# Altium footprint library Relays.PcbLib: 13 footprints
Each footprint in its own frame and in the unit in brackets; x right, y up, seen from the top. Pads: shape width x height; smd on the part's side, far side on the other; paste and mask are expansions set on the pad; w line width, h text height; cw(c..) or ccw(c..) is an arc to the next point about the centre after c.
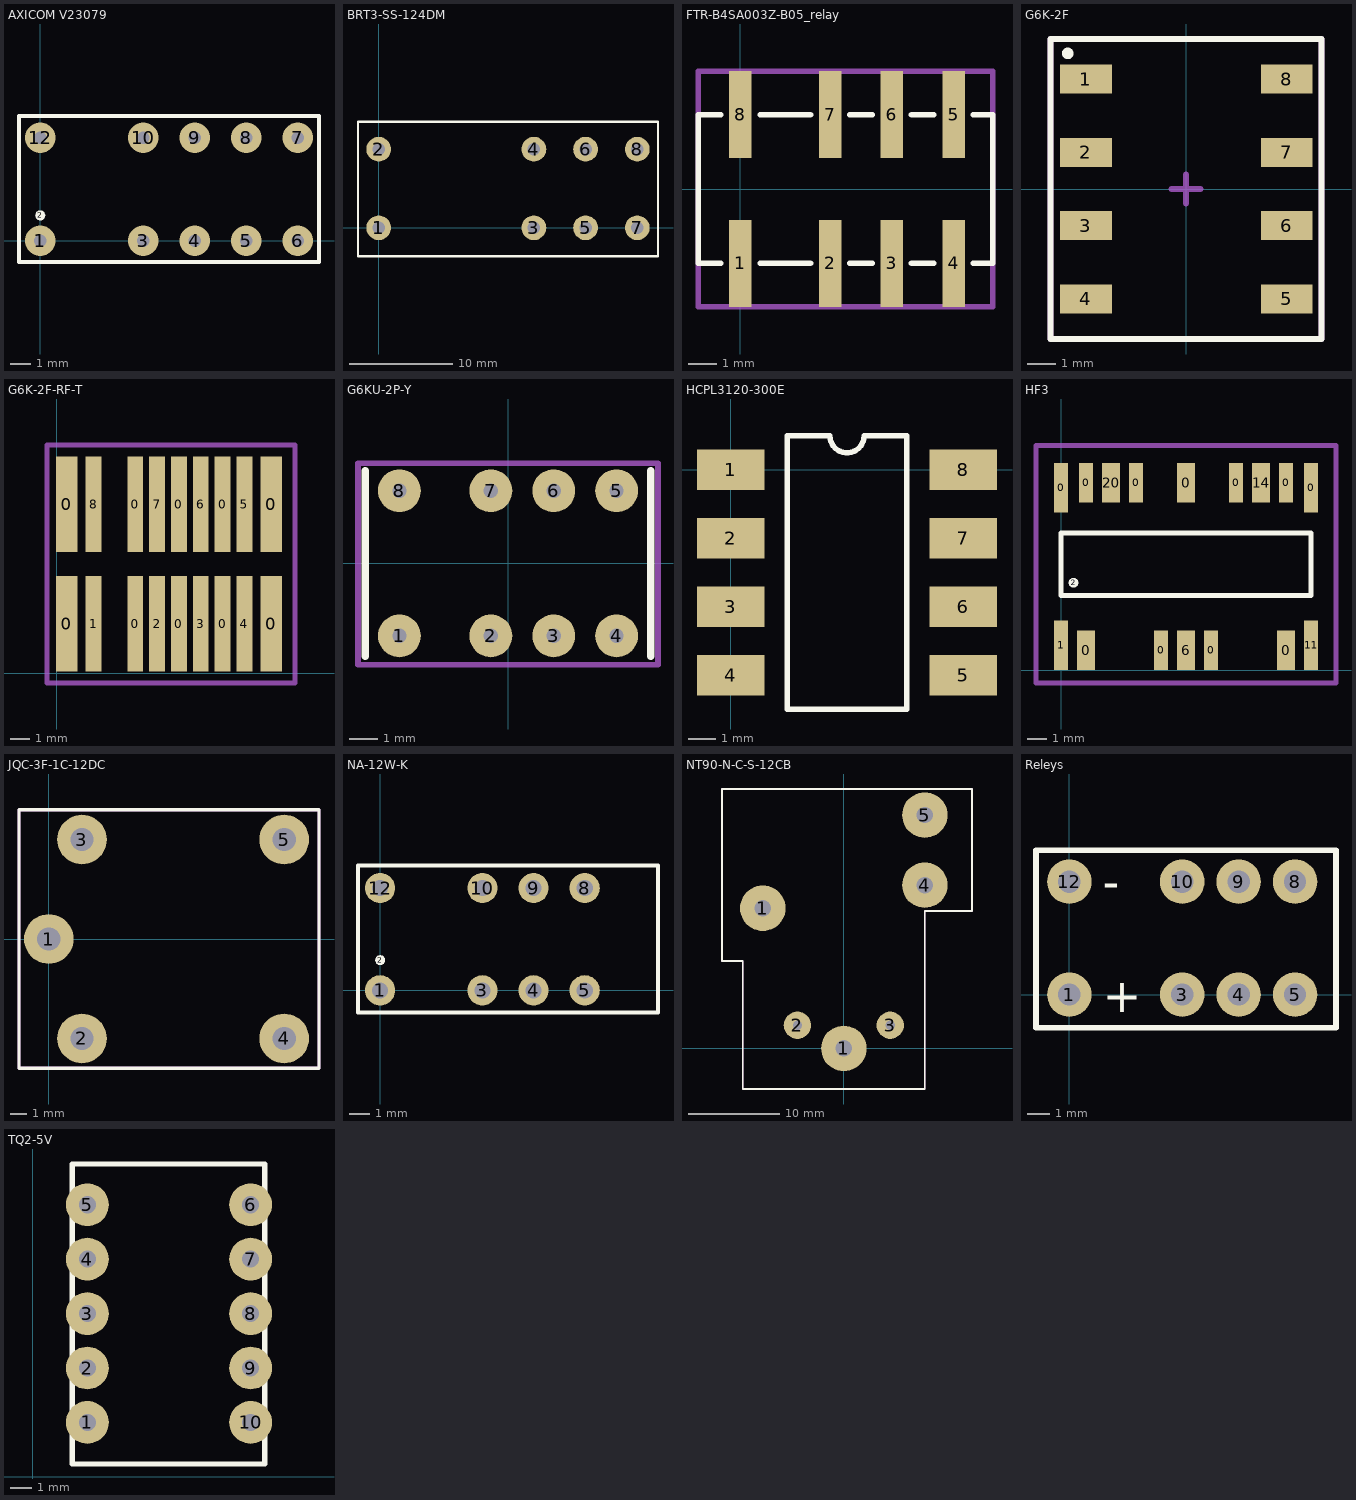
[diagram p0: the footprints below, top view; thin cyan lines are the x and y axes]

## AXICOM V23079 [mm]
pads (11):
  round 1.5 hole 0.6: 1(0,0) 3(5.08,0) 4(7.62,0) 5(10.16,0) 6(12.7,0) 7(12.7,5.08) 8(10.16,5.08) 9(7.62,5.08) 10(5.08,5.08) 12(0,5.08)
  round 0.5 on Top Overlay: 2(0,1.25)
Top Overlay:
  lines w0.2: -1.05,-1.05 13.75,-1.05 13.75,6.15 -1.05,6.15 -1.05,-1.05
3D body "User Library-NA12W-K.STEP": height 9.7, standoff -3, extent -1.1,-1.15 13.8,6.25

## BRT3-SS-124DM [mm]
pads (8):
  round 2.4 hole 1.2: 1(0,0) 2(0,7.6) 3(15,0) 4(15,7.6) 5(20,0) 6(20,7.6) 7(25,0) 8(25,7.6)
Top Overlay:
  lines w0.2: -2,-2.75 27,-2.75 27,10.25 -2,10.25 -2,-2.75
3D body "User Library-Relay HONGFA JQX-14F-1C.STEP": height 21, standoff -3.6, extent -2.5,-3 27.5,10.5

## FTR-B4SA003Z-B05_relay [mm]
pads (8):
  rect 0.8x3.1 smd: 1(0,-2.65) 2(3.2,-2.65) 3(5.4,-2.65) 4(7.6,-2.65) 5(7.6,2.65) 6(5.4,2.65) 7(3.2,2.65) 8(0,2.65)
Top Overlay:
  lines w0.2: -0.7,-2.65 -1.5,-2.65 -1.5,2.65 -0.7,2.65 ; 0.7,-2.65 2.5,-2.65 ; 0.7,2.65 2.5,2.65 ; 3.9,-2.65 4.7,-2.65 ; 3.9,2.65 4.7,2.65 ; 6.1,-2.65 6.9,-2.65 ; 6.1,2.65 6.9,2.65 ; 8.3,-2.65 9,-2.65 9,2.65 8.3,2.65
TopAssy:
  lines w0.2: -1.5,-4.2 9,-4.2 9,4.2 -1.5,4.2 -1.5,-4.2
3D body "g6k-2f-rf_3dc.stp": height 5.4, standoff 0, extent -2.6,-3.9 10.2,3.9

## G6K-2F [mm] "SOJ, 8-Leads, Body 10,0x6,5mm (max), Pitch 2,54mm, IPC Low Density"
height 5.2
pads (8):
  rect 1.8x1 smd: 1(-3.467,3.81) 2(-3.467,1.27) 3(-3.467,-1.27) 4(-3.467,-3.81) 5(3.492,-3.81) 6(3.492,-1.27) 7(3.492,1.27) 8(3.492,3.81)
Top Overlay:
  circle w0.2: c-4.1,4.7 r0.1
  lines w0.2: -4.7,-5.2 -4.7,5.2 4.7,5.2 4.7,-5.2 -4.7,-5.2
TopAssy:
  lines w0.2: -0.5,0 0.5,0 ; 0,-0.5 0,0.5 ; -4.7,-5.2 -4.7,5.2 4.7,5.2 4.7,-5.2 -4.7,-5.2
3D body "g6k-2f_3dc.stp": height 5.2, standoff 0, extent -3.9,-5 3.9,5

## G6K-2F-RF-T [mm]
pads (18):
  rect 1.1x4.8 smd: 0(0.5,2.5) 0(0.5,8.5) 0(10.8,2.5) 0(10.8,8.5)
  rect 0.8x4.8 smd: 0(3.95,2.5) 0(3.95,8.5) 0(6.15,2.5) 0(6.15,8.5) 0(8.35,2.5) 0(8.35,8.5) 1(1.85,2.5) 2(5.05,2.5) 3(7.25,2.5) 4(9.45,2.5) 5(9.45,8.5) 6(7.25,8.5) 7(5.05,8.5) 8(1.85,8.5)
Mechanical 15:
  lines w0.254: -0.5,-0.5 -0.5,11.5 12,11.5 12,-0.5 -0.5,-0.5

## G6KU-2P-Y [mm]
pads (8):
  round 1.5 hole 0.5: 1(-3.8,-2.54) 2(-0.6,-2.54) 3(1.6,-2.54) 4(3.8,-2.54) 5(3.8,2.54) 6(1.6,2.54) 7(-0.6,2.54) 8(-3.8,2.54)
Top Overlay:
  lines w0.254: -5,-3.25 -5,3.25 ; 5,-3.25 5,3.25
Mechanical 15:
  lines w0.2: -5.25,-3.55 5.25,-3.55 5.25,3.5 -5.25,3.5 -5.25,-3.55

## HCPL3120-300E [mm]
pads (8):
  rect 2.5x1.5 smd: 1(0,0) 2(0,-2.54) 3(0,-5.08) 4(0,-7.62) 5(8.636,-7.62) 6(8.636,-5.08) 7(8.636,-2.54) 8(8.636,0)
Top Overlay:
  lines w0.2: 2.093,-8.89 2.093,1.27 3.683,1.27 ccw(c4.318,1.27) 4.953,1.27 6.543,1.27 6.543,-8.89 2.093,-8.89
3D body "User Library-8-pin-DIP_GW_HCPL-4200-300E.STEP": height 4.35, standoff 0.02, extent -0.632,-8.757 9.268,1.143

## HF3 [mm]
pads (17):
  rect 0.7x2.5 smd: 0(0,9.27) 0(12.7,9.27) 1(0,1.27) 11(12.7,1.27)
  rect 0.9x2 smd: 0(1.27,1.02) 0(6.35,9.52) 0(11.43,1.02) 6(6.35,1.02) 14(10.16,9.52) 20(2.54,9.52)
  rect 0.7x2 smd: 0(1.27,9.52) 0(3.81,9.52) 0(5.08,1.02) 0(7.62,1.02) 0(8.89,9.52) 0(11.43,9.52)
  round 0.5 on Top Overlay: 2(0.635,4.445)
Top Overlay:
  lines w0.254: 0,3.81 0,6.985 12.7,6.985 12.7,3.81 0,3.81
Mechanical 15:
  lines w0.254: -1.27,-0.635 13.97,-0.635 13.97,11.43 -1.27,11.43 -1.27,-0.635

## JQC-3F-1C-12DC [mm]
height 15
pads (5):
  round 3 hole 1.4: 1(0,0) 2(2,-6) 3(2,6) 4(14.2,-6) 5(14.2,6)
Top Overlay:
  lines w0.2: -1.8,-7.8 16.3,-7.8 16.3,7.8 -1.8,7.8 -1.8,-7.8
Mechanical 15:
  lines w0.2: -1.8,-7.8 -1.8,7.8 16.3,7.8 16.3,-7.8 -1.8,-7.8
3D body: height 15, standoff 0, extent -0.8,-7.1 15.6,7.1
3D body: height 0, standoff -3, extent 1.504,-6.499 2.5,-5.501
3D body: height 0, standoff -3, extent 1.504,5.501 2.5,6.499
3D body: height 0, standoff -3, extent 13.704,5.501 14.7,6.499
3D body: height 0, standoff -3, extent 13.704,-6.499 14.7,-5.501
3D body: height 0, standoff -3, extent -0.496,-0.499 0.5,0.499

## NA-12W-K [mm]
height 9.7
pads (9):
  round 1.5 hole 0.8: 1(0,0) 3(5.08,0) 4(7.62,0) 5(10.16,0) 8(10.16,5.08) 9(7.62,5.08) 10(5.08,5.08) 12(0,5.08)
  round 0.5 on Top Overlay: 2(0,1.5)
Top Overlay:
  lines w0.2: -1.1,-1.1 13.8,-1.1 13.8,6.2 -1.1,6.2 -1.1,-1.1
3D body "User Library-NA12W-K.STEP": height 9.7, standoff -3, extent -1.05,-1.1 13.85,6.3

## NT90-N-C-S-12CB [mm]
height 20
pads (6):
  round 5 hole 1.8: 1(-8.9,15.4) 1(0,0) 4(8.9,17.94) 5(8.9,25.64)
  round 3 hole 1: 2(-5.1,2.54) 3(5.1,2.54)
Top Overlay:
  lines w0.2: -13.4,9.6 -13.4,28.5 14.1,28.5 14.1,15.1 8.9,15.1 8.9,-4.46 -11.1,-4.46 -11.1,9.6 -13.4,9.6
TopAssy:
  lines w0.2: -13.4,9.6 -11.1,9.6 -11.1,-4.46 8.9,-4.46 8.9,15.1 14.1,15.1 14.1,28.5 -13.4,28.5 -13.4,9.6
3D body "SW3dPS-relay_t90_spdt.STEP": height 20.42, standoff -6.93, extent -13.8,-4.304 13.708,27.904

## Releys [mm]
pads (8):
  round 2 hole 1: 1(0,0) 3(5.08,0) 4(7.62,0) 5(10.16,0) 8(10.16,5.08) 9(7.62,5.08) 10(5.08,5.08) 12(0,5.08)
Top Overlay:
  lines w0.254: -1.5,-1.5 12,-1.5 12,6.5 -1.5,6.5 -1.5,-1.5
  text "-" at 1.5,4.3 h1.52
  text "+" at 1.5,-0.8 h1.52

## TQ2-5V [mm]
pads (10):
  round 2 hole 0.8: 1(2.54,2.54) 2(2.54,5.08) 3(2.54,7.62) 4(2.54,10.16) 5(2.54,12.7) 6(10.16,12.7) 7(10.16,10.16) 8(10.16,7.62) 9(10.16,5.08) 10(10.16,2.54)
Top Overlay:
  lines w0.254: 1.825,0.6 1.825,14.6 10.825,14.6 10.825,0.6 1.825,0.6